# EAGLE library part XC9572XL (library My Library-adm)
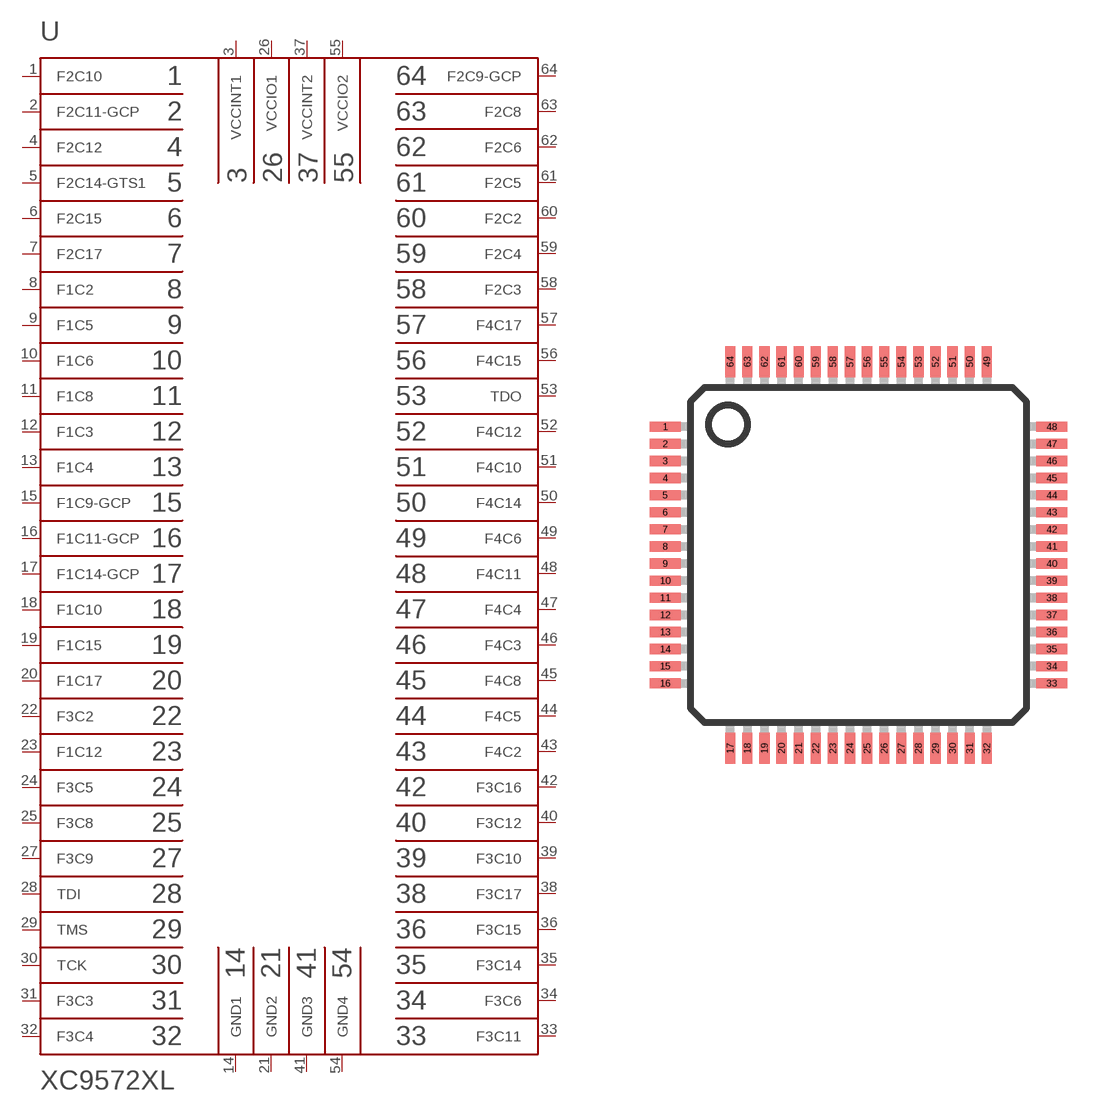
[diagram p31: symbol with the pads of LQFP-ST-64-2; footprint LQFP-ST-64-2]

Designator prefix -

## XC9572XL  [LQFP-ST-64-2]
1  F2C10
2  F2C11-GCP
3  VCCINT1  pwr
4  F2C12
5  F2C14-GTS1
6  F2C15
7  F2C17
8  F1C2
9  F1C5
10  F1C6
11  F1C8
12  F1C3
13  F1C4
14  GND1  pwr
15  F1C9-GCP
16  F1C11-GCP
17  F1C14-GCP
18  F1C10
19  F1C15
20  F1C17
21  GND2  pwr
22  F3C2
23  F1C12
24  F3C5
25  F3C8
26  VCCIO1  pwr
27  F3C9
28  TDI
29  TMS
30  TCK
31  F3C3
32  F3C4
33  F3C11
34  F3C6
35  F3C14
36  F3C15
37  VCCINT2  pwr
38  F3C17
39  F3C10
40  F3C12
41  GND3  pwr
42  F3C16
43  F4C2
44  F4C5
45  F4C8
46  F4C3
47  F4C4
48  F4C11
49  F4C6
50  F4C14
51  F4C10
52  F4C12
53  TDO
54  GND4  pwr
55  VCCIO2  pwr
56  F4C15
57  F4C17
58  F2C3
59  F2C4
60  F2C2
61  F2C5
62  F2C6
63  F2C8
64  F2C9-GCP

## Footprint LQFP-ST-64-2 (pad centres in mm)
64-Lead Low Profile Quad Flat Package [LQFP] (ST-64-2) COMPLIANT TO JEDEC STANDARDS MS-026-BCD Source: http://www.analog.com/UploadedFiles/Data_Sheets/288945048AD7C7019_20_1_2_4_5_6_7_0.pdf
smd 0.9 x 0.3: 1 -5.65,3.75; 2 -5.65,3.25; 3 -5.65,2.75; 4 -5.65,2.25; 5 -5.65,1.75; 6 -5.65,1.25; 7 -5.65,0.75; 8 -5.65,0.25; 9 -5.65,-0.25; 10 -5.65,-0.75; 11 -5.65,-1.25; 12 -5.65,-1.75; 13 -5.65,-2.25; 14 -5.65,-2.75; 15 -5.65,-3.25; 16 -5.65,-3.75; 33 5.65,-3.75; 34 5.65,-3.25; 35 5.65,-2.75; 36 5.65,-2.25; 37 5.65,-1.75; 38 5.65,-1.25; 39 5.65,-0.75; 40 5.65,-0.25; 41 5.65,0.25; 42 5.65,0.75; 43 5.65,1.25; 44 5.65,1.75; 45 5.65,2.25; 46 5.65,2.75; 47 5.65,3.25; 48 5.65,3.75
smd 0.3 x 0.9: 17 -3.75,-5.65; 18 -3.25,-5.65; 19 -2.75,-5.65; 20 -2.25,-5.65; 21 -1.75,-5.65; 22 -1.25,-5.65; 23 -0.75,-5.65; 24 -0.25,-5.65; 25 0.25,-5.65; 26 0.75,-5.65; 27 1.25,-5.65; 28 1.75,-5.65; 29 2.25,-5.65; 30 2.75,-5.65; 31 3.25,-5.65; 32 3.75,-5.65; 49 3.75,5.65; 50 3.25,5.65; 51 2.75,5.65; 52 2.25,5.65; 53 1.75,5.65; 54 1.25,5.65; 55 0.75,5.65; 56 0.25,5.65; 57 -0.25,5.65; 58 -0.75,5.65; 59 -1.25,5.65; 60 -1.75,5.65; 61 -2.25,5.65; 62 -2.75,5.65; 63 -3.25,5.65; 64 -3.75,5.65